# Altium footprint library MLG1005S.PcbLib: 1 footprints
Each footprint in its own frame and in the unit in brackets; x right, y up, seen from the top. Pads: shape width x height; smd on the part's side, far side on the other; paste and mask are expansions set on the pad; w line width, h text height; cw(c..) or ccw(c..) is an arc to the next point about the centre after c.
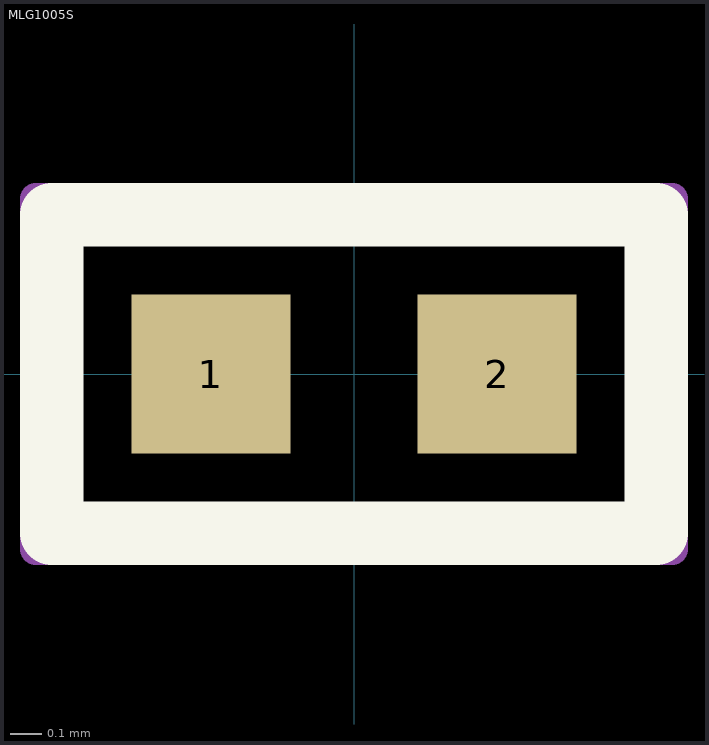
[diagram p0: the footprint, top view; thin cyan lines are the x and y axes]

## MLG1005S [mm]
pads (2):
  rect 0.5x0.5 smd: 1(-0.45,0) 2(0.45,0)
Top Overlay:
  lines w0.2: -0.95,-0.5 -0.95,0.5 0.95,0.5 0.95,-0.5 -0.95,-0.5
Top Courtyard:
  lines w0.1: -1,-0.55 -1,0.55 1,0.55 1,-0.55 -1,-0.55
3D body "MLG1005S2N7BTD25.STEP": height 0.55, standoff 0, extent -0.5,-0.25 0.5,0.25